# Altium schematic symbol library Maxim Communication Transceiver.SchLib: 302 symbols (part 7 of 7)
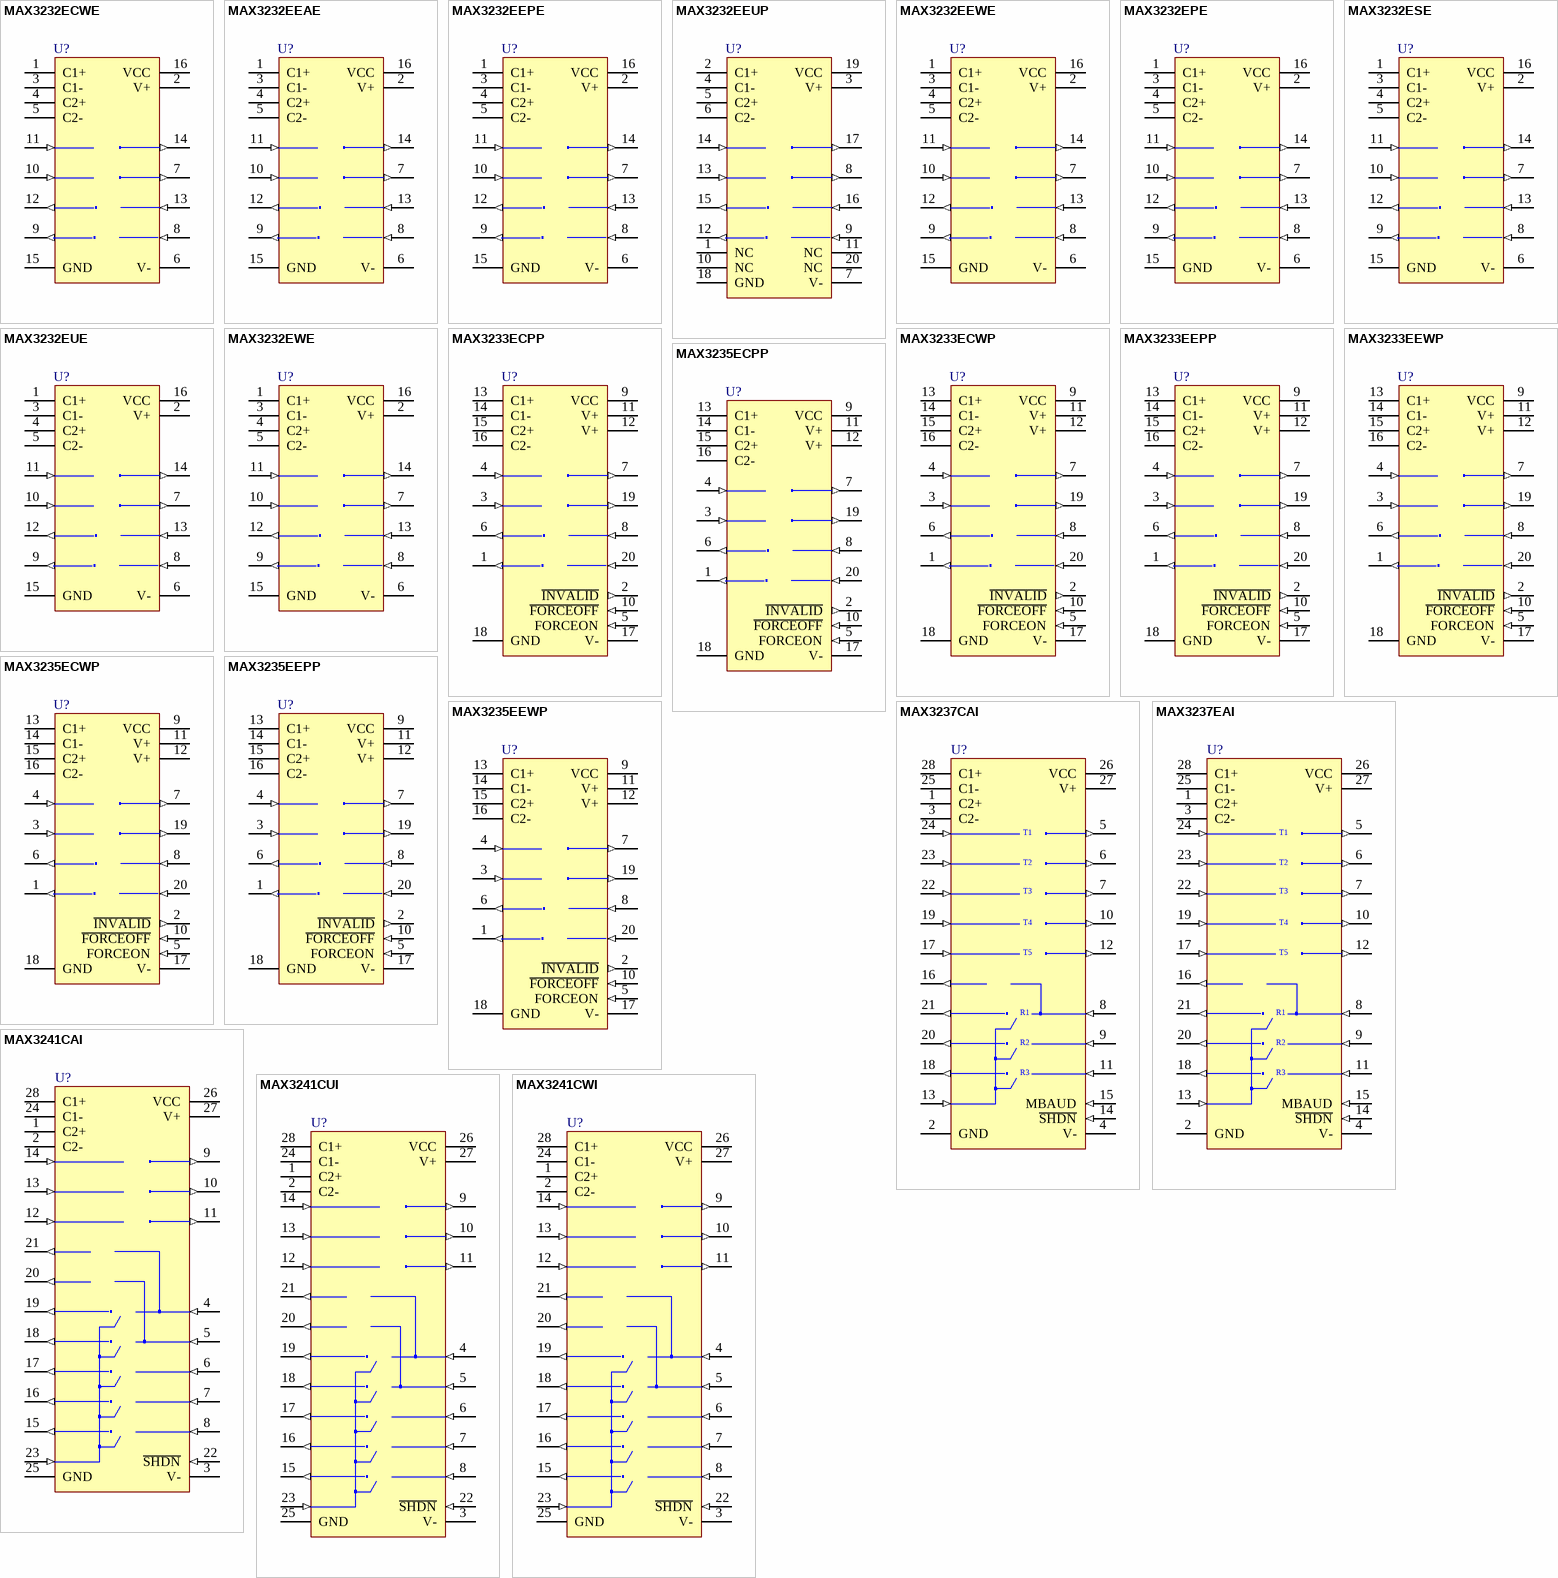
[diagram p18: symbols MAX3232ECWE to MAX3241CWI]

## MAX3235ECWP
designator U?
±15kV ESD-Protected, 1µA, 250kbps, 5V, Dual RS-232 Transceiver with Internal Capacitor; Published: 16-Jan-2001; LatestRevisionDate: 13-Apr-2006; LatestRevisionNote: IPC-7351 Footprint Added.; DatasheetVersion: Apr-1999; PackageReference: WSO20; Publisher: Altium Limited; PackageDescription: 20-Pin Small Outline Integrated Circuit 1.27 mm Pitch; Code_JEDEC: MS-013-AC; Code_IPC: SOIC127P1030-20; ComponentLink1Description: Manufacturer Link; ComponentLink1URL: http://www.maxim-ic.com/; ComponentLink2Description: Datasheet; ComponentLink2URL: http://pdfserv.maxim-ic.com/en/ds/MAX3233E-MAX3235E.pdf
footprint WSO20_N (SOIC, 20-Leads, Body 12.8x7.5mm, Pitch 1.27mm, IPC Medium Density)
footprint WSO20_L (SOIC, 20-Leads, Body 12.8x7.5mm, Pitch 1.27mm, IPC High Density)
footprint WSO20_M (SOIC, 20-Leads, Body 12.8x7.5mm, Pitch 1.27mm, IPC Low Density)
3D model WSO20 (20-Pin Small Outline Integrated Circuit 1.27 mm Pitch)
pins: 1 R2OUT (out), 2 ~{INVALID} (out), 3 T2IN (in), 4 T1IN (in), 5 FORCEON (in), 6 R1OUT (out), 7 T1OUT (out), 8 R1IN (in), 9 VCC (power), 10 ~{FORCEOFF} (in), 11 V+ (power), 12 V+ (power), 13 C1+, 14 C1-, 15 C2+, 16 C2-, 17 V- (power), 18 GND (power), 19 T2OUT (out), 20 R2IN (in)

## MAX3235EEPP
designator U?
±15kV ESD-Protected, 1µA, 250kbps, 5V, Dual RS-232 Transceiver with Internal Capacitor; Published: 16-Jan-2001; LatestRevisionDate: 29-May-2009; LatestRevisionNote: Component Body Added.; DatasheetVersion: Apr-1999; PackageVersion: RevB, 21-0043; PackageReference: PP20; Publisher: Altium Limited; PackageDescription: DIP, 20-Pin, Row Spacing 7.62 mm, Pitch 2.54 mm; Code_JEDEC: MS-001-AE; ComponentLink1Description: Manufacturer Link; ComponentLink1URL: http://www.maxim-ic.com/; ComponentLink2Description: Datasheet; ComponentLink2URL: http://pdfserv.maxim-ic.com/en/ds/MAX3233E-MAX3235E.pdf
footprint PP20 (DIP, 20-Leads, Row Spacing 7.62mm, Pitch 2.54mm, Body 26.16x7.24mm)
3D model PP20 (DIP, 20-Pin, Row Spacing 7.62 mm, Pitch 2.54 mm)
pins: 1 R2OUT (out), 2 ~{INVALID} (out), 3 T2IN (in), 4 T1IN (in), 5 FORCEON (in), 6 R1OUT (out), 7 T1OUT (out), 8 R1IN (in), 9 VCC (power), 10 ~{FORCEOFF} (in), 11 V+ (power), 12 V+ (power), 13 C1+, 14 C1-, 15 C2+, 16 C2-, 17 V- (power), 18 GND (power), 19 T2OUT (out), 20 R2IN (in)

## MAX3235EEWP
designator U?
±15kV ESD-Protected, 1µA, 250kbps, 5V, Dual RS-232 Transceiver with Internal Capacitor; Published: 16-Jan-2001; LatestRevisionDate: 13-Apr-2006; LatestRevisionNote: IPC-7351 Footprint Added.; DatasheetVersion: Apr-1999; PackageReference: WSO20; Publisher: Altium Limited; PackageDescription: 20-Pin Small Outline Integrated Circuit 1.27 mm Pitch; Code_JEDEC: MS-013-AC; Code_IPC: SOIC127P1030-20; ComponentLink1Description: Manufacturer Link; ComponentLink1URL: http://www.maxim-ic.com/; ComponentLink2Description: Datasheet; ComponentLink2URL: http://pdfserv.maxim-ic.com/en/ds/MAX3233E-MAX3235E.pdf
footprint WSO20_N (SOIC, 20-Leads, Body 12.8x7.5mm, Pitch 1.27mm, IPC Medium Density)
footprint WSO20_L (SOIC, 20-Leads, Body 12.8x7.5mm, Pitch 1.27mm, IPC High Density)
footprint WSO20_M (SOIC, 20-Leads, Body 12.8x7.5mm, Pitch 1.27mm, IPC Low Density)
3D model WSO20 (20-Pin Small Outline Integrated Circuit 1.27 mm Pitch)
pins: 1 R2OUT (out), 2 ~{INVALID} (out), 3 T2IN (in), 4 T1IN (in), 5 FORCEON (in), 6 R1OUT (out), 7 T1OUT (out), 8 R1IN (in), 9 VCC (power), 10 ~{FORCEOFF} (in), 11 V+ (power), 12 V+ (power), 13 C1+, 14 C1-, 15 C2+, 16 C2-, 17 V- (power), 18 GND (power), 19 T2OUT (out), 20 R2IN (in)

## MAX3237CAI
designator U?
3.0V TO 5.5V, Low-Power, up to 1Mbps, True RS-232 Transceiver Using Four 0.1µF External Capacitor; Published: 16-Jan-2001; LatestRevisionDate: 29-May-2009; LatestRevisionNote: IPC-7351 Footprint Added.; DatasheetVersion: Mar-1999; PackageVersion: Jul-2000; PackageReference: SSOP28; Publisher: Altium Limited; PackageDescription: 28-Pin Small Outline Package 0.65 mm Pitch; Code_JEDEC: MO-150-AH; Code_IPC: SOP65P780-28; ComponentLink1Description: Manufacturer Link; ComponentLink1URL: http://www.maxim-ic.com/; ComponentLink2Description: Datasheet; ComponentLink2URL: http://pdfserv.maxim-ic.com/en/ds/MAX3222-MAX3241.pdf
footprint SSOP28_N (SOP, 28-Leads, Body 10.2x5.3mm, Pitch 0.65mm, IPC Medium Density)
footprint SSOP28_L (SOP, 28-Leads, Body 10.2x5.3mm, Pitch 0.65mm, IPC High Density)
footprint SSOP28_M (SOP, 28-Leads, Body 10.2x5.3mm, Pitch 0.65mm, IPC Low Density)
3D model SSOP28 (28-Pin Small Outline Package 0.65 mm Pitch)
pins: 1 C2+, 2 GND (power), 3 C2-, 4 V- (power), 5 T1OUT (out), 6 T2OUT (out), 7 T3OUT (out), 8 R1IN (in), 9 R2IN (in), 10 T4OUT (out), 11 R3IN (in), 12 T5OUT (out), 13 ~{EN} (in), 14 ~{SHDN} (in), 15 MBAUD (in), 16 R1OUTB (out), 17 T5IN (in), 18 R3OUT (out), 19 T4IN (in), 20 R2OUT (out), 21 R1OUT (out), 22 T3IN (in), 23 T2IN (in), 24 T1IN (in), 25 C1-, 26 VCC (power), 27 V+ (power), 28 C1+
text: T1; T2; T3; T4; T5; R1; R2; R3

## MAX3237EAI
designator U?
3.0V TO 5.5V, Low-Power, up to 1Mbps, True RS-232 Transceiver Using Four 0.1µF External Capacitor; Published: 16-Jan-2001; LatestRevisionDate: 29-May-2009; LatestRevisionNote: IPC-7351 Footprint Added.; DatasheetVersion: Mar-1999; PackageVersion: Jul-2000; PackageReference: SSOP28; Publisher: Altium Limited; PackageDescription: 28-Pin Small Outline Package 0.65 mm Pitch; Code_JEDEC: MO-150-AH; Code_IPC: SOP65P780-28; ComponentLink1Description: Manufacturer Link; ComponentLink1URL: http://www.maxim-ic.com/; ComponentLink2Description: Datasheet; ComponentLink2URL: http://pdfserv.maxim-ic.com/en/ds/MAX3222-MAX3241.pdf
footprint SSOP28_N (SOP, 28-Leads, Body 10.2x5.3mm, Pitch 0.65mm, IPC Medium Density)
footprint SSOP28_L (SOP, 28-Leads, Body 10.2x5.3mm, Pitch 0.65mm, IPC High Density)
footprint SSOP28_M (SOP, 28-Leads, Body 10.2x5.3mm, Pitch 0.65mm, IPC Low Density)
3D model SSOP28 (28-Pin Small Outline Package 0.65 mm Pitch)
pins: 1 C2+, 2 GND (power), 3 C2-, 4 V- (power), 5 T1OUT (out), 6 T2OUT (out), 7 T3OUT (out), 8 R1IN (in), 9 R2IN (in), 10 T4OUT (out), 11 R3IN (in), 12 T5OUT (out), 13 ~{EN} (in), 14 ~{SHDN} (in), 15 MBAUD (in), 16 R1OUTB (out), 17 T5IN (in), 18 R3OUT (out), 19 T4IN (in), 20 R2OUT (out), 21 R1OUT (out), 22 T3IN (in), 23 T2IN (in), 24 T1IN (in), 25 C1-, 26 VCC (power), 27 V+ (power), 28 C1+
text: T1; T2; T3; T4; T5; R1; R2; R3

## MAX3241CAI
designator U?
3.0V TO 5.5V, Low-Power, up to 1Mbps, True RS-232 Transceiver Using Four 0.1µF External Capacitor; Published: 16-Jan-2001; LatestRevisionDate: 29-May-2009; LatestRevisionNote: IPC-7351 Footprint Added.; DatasheetVersion: Mar-1999; PackageVersion: Jul-2000; PackageReference: SSOP28; Publisher: Altium Limited; PackageDescription: 28-Pin Small Outline Package 0.65 mm Pitch; Code_JEDEC: MO-150-AH; Code_IPC: SOP65P780-28; ComponentLink1Description: Manufacturer Link; ComponentLink1URL: http://www.maxim-ic.com/; ComponentLink2Description: Datasheet; ComponentLink2URL: http://pdfserv.maxim-ic.com/en/ds/MAX3222-MAX3241.pdf
footprint SSOP28_N (SOP, 28-Leads, Body 10.2x5.3mm, Pitch 0.65mm, IPC Medium Density)
footprint SSOP28_L (SOP, 28-Leads, Body 10.2x5.3mm, Pitch 0.65mm, IPC High Density)
footprint SSOP28_M (SOP, 28-Leads, Body 10.2x5.3mm, Pitch 0.65mm, IPC Low Density)
3D model SSOP28 (28-Pin Small Outline Package 0.65 mm Pitch)
pins: 1 C2+, 2 C2-, 3 V- (power), 4 R1IN (in), 5 R2IN (in), 6 R3IN (in), 7 R4IN (in), 8 R5IN (in), 9 T1OUT (out), 10 T2OUT (out), 11 T3OUT (out), 12 T3IN (in), 13 T2IN (in), 14 T1IN (in), 15 R5OUT (out), 16 R4OUT (out), 17 R3OUT (out), 18 R2OUT (out), 19 R1OUT (out), 20 R2OUTB (out), 21 R1OUTB (out), 22 ~{SHDN} (in), 23 ~{EN} (in), 24 C1-, 25 GND (power), 26 VCC (power), 27 V+ (power), 28 C1+

## MAX3241CUI
designator U?
3.0V TO 5.5V, Low-Power, up to 1Mbps, True RS-232 Transceiver Using Four 0.1µF External Capacitor; Published: 16-Jan-2001; LatestRevisionDate: 29-May-2009; LatestRevisionNote: IPC-7351 Footprint Added.; DatasheetVersion: Mar-1999; PackageVersion: 21-0066 C; PackageReference: TSSOP28; Publisher: Altium Limited; PackageDescription: 28-Pin Thin Small Outline Package 0.65 mm Pitch; ComponentLink1Description: Manufacturer Link; ComponentLink1URL: http://www.maxim-ic.com/; ComponentLink2Description: Datasheet; ComponentLink2URL: http://pdfserv.maxim-ic.com/en/ds/MAX3222-MAX3241.pdf
footprint TSSOP28_N (TSOP, 28-Leads, Body 9.7x4.4mm, Pitch 0.65mm, IPC Medium Density)
footprint TSSOP28_L (TSOP, 28-Leads, Body 9.7x4.4mm, Pitch 0.65mm, IPC High Density)
footprint TSSOP28_M (TSOP, 28-Leads, Body 9.7x4.4mm, Pitch 0.65mm, IPC Low Density)
3D model TSSOP28 (28-Pin Thin Small Outline Package 0.65 mm Pitch)
pins: 1 C2+, 2 C2-, 3 V- (power), 4 R1IN (in), 5 R2IN (in), 6 R3IN (in), 7 R4IN (in), 8 R5IN (in), 9 T1OUT (out), 10 T2OUT (out), 11 T3OUT (out), 12 T3IN (in), 13 T2IN (in), 14 T1IN (in), 15 R5OUT (out), 16 R4OUT (out), 17 R3OUT (out), 18 R2OUT (out), 19 R1OUT (out), 20 R2OUTB (out), 21 R1OUTB (out), 22 ~{SHDN} (in), 23 ~{EN} (in), 24 C1-, 25 GND (power), 26 VCC (power), 27 V+ (power), 28 C1+

## MAX3241CWI
designator U?
3.0V TO 5.5V, Low-Power, up to 1Mbps, True RS-232 Transceiver Using Four 0.1µF External Capacitor; Published: 16-Jan-2001; LatestRevisionDate: 13-Apr-2006; LatestRevisionNote: IPC-7351 Footprint Added.; DatasheetVersion: Mar-1999; PackageReference: WSO28; Publisher: Altium Limited; PackageDescription: 28-Pin Small Outline Integrated Circuit 1.27 mm Pitch; ComponentLink1Description: Manufacturer Link; ComponentLink1URL: http://www.maxim-ic.com/; ComponentLink2Description: Datasheet; ComponentLink2URL: http://pdfserv.maxim-ic.com/en/ds/MAX3222-MAX3241.pdf
footprint WSO28_N (SOIC, 28-Leads, Body 17.9x7.5mm, Pitch 1.27mm, IPC Medium Density)
footprint WSO28_L (SOIC, 28-Leads, Body 17.9x7.5mm, Pitch 1.27mm, IPC High Density)
footprint WSO28_M (SOIC, 28-Leads, Body 17.9x7.5mm, Pitch 1.27mm, IPC Low Density)
3D model WSO28 (28-Pin Small Outline Integrated Circuit 1.27 mm Pitch)
pins: 1 C2+, 2 C2-, 3 V- (power), 4 R1IN (in), 5 R2IN (in), 6 R3IN (in), 7 R4IN (in), 8 R5IN (in), 9 T1OUT (out), 10 T2OUT (out), 11 T3OUT (out), 12 T3IN (in), 13 T2IN (in), 14 T1IN (in), 15 R5OUT (out), 16 R4OUT (out), 17 R3OUT (out), 18 R2OUT (out), 19 R1OUT (out), 20 R2OUTB (out), 21 R1OUTB (out), 22 ~{SHDN} (in), 23 ~{EN} (in), 24 C1-, 25 GND (power), 26 VCC (power), 27 V+ (power), 28 C1+

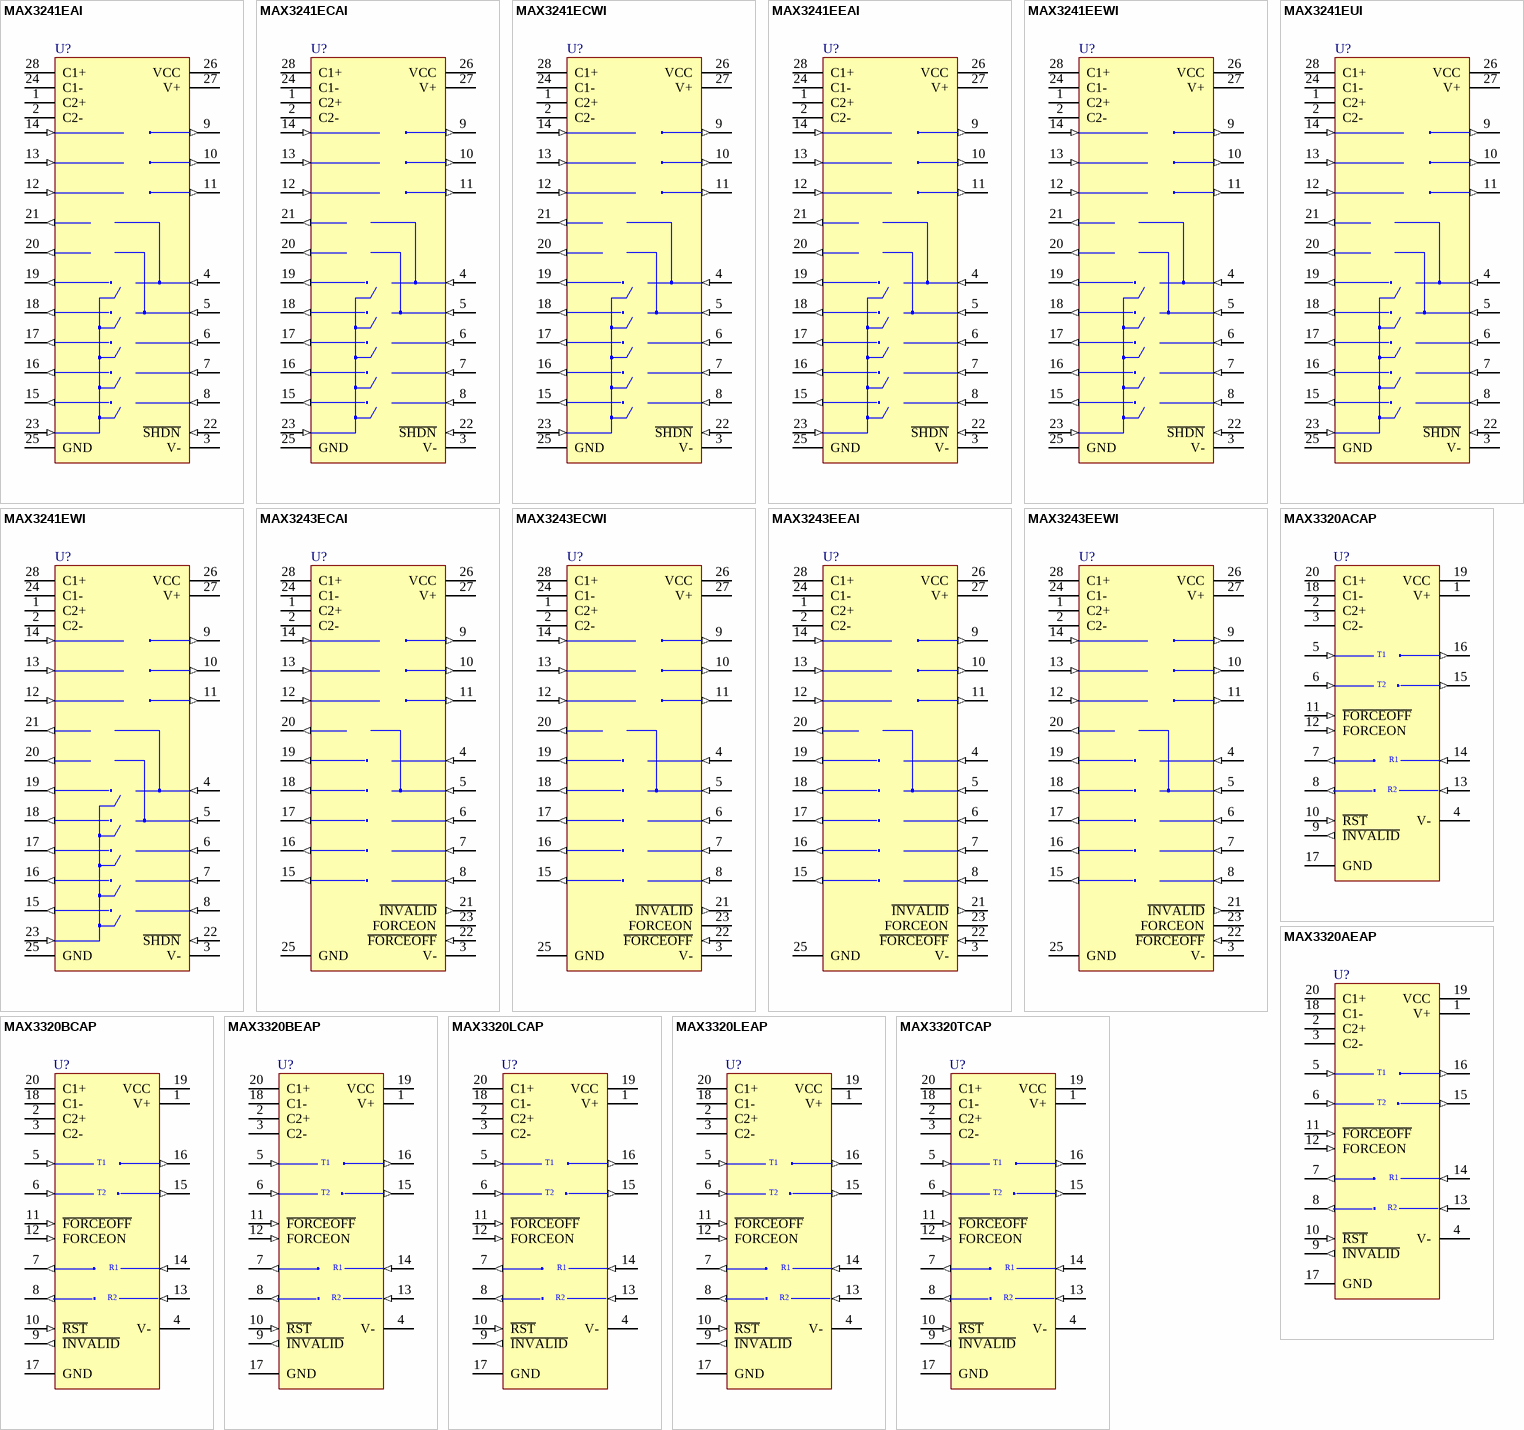
[diagram p11: symbols MAX3241EAI to MAX3320TCAP]

## MAX3241EAI
designator U?
3.0V TO 5.5V, Low-Power, up to 1Mbps, True RS-232 Transceiver Using Four 0.1µF External Capacitor; Published: 16-Jan-2001; LatestRevisionDate: 29-May-2009; LatestRevisionNote: IPC-7351 Footprint Added.; DatasheetVersion: Mar-1999; PackageVersion: Jul-2000; PackageReference: SSOP28; Publisher: Altium Limited; PackageDescription: 28-Pin Small Outline Package 0.65 mm Pitch; Code_JEDEC: MO-150-AH; Code_IPC: SOP65P780-28; ComponentLink1Description: Manufacturer Link; ComponentLink1URL: http://www.maxim-ic.com/; ComponentLink2Description: Datasheet; ComponentLink2URL: http://pdfserv.maxim-ic.com/en/ds/MAX3222-MAX3241.pdf
footprint SSOP28_N (SOP, 28-Leads, Body 10.2x5.3mm, Pitch 0.65mm, IPC Medium Density)
footprint SSOP28_L (SOP, 28-Leads, Body 10.2x5.3mm, Pitch 0.65mm, IPC High Density)
footprint SSOP28_M (SOP, 28-Leads, Body 10.2x5.3mm, Pitch 0.65mm, IPC Low Density)
3D model SSOP28 (28-Pin Small Outline Package 0.65 mm Pitch)
pins: 1 C2+, 2 C2-, 3 V- (power), 4 R1IN (in), 5 R2IN (in), 6 R3IN (in), 7 R4IN (in), 8 R5IN (in), 9 T1OUT (out), 10 T2OUT (out), 11 T3OUT (out), 12 T3IN (in), 13 T2IN (in), 14 T1IN (in), 15 R5OUT (out), 16 R4OUT (out), 17 R3OUT (out), 18 R2OUT (out), 19 R1OUT (out), 20 R2OUTB (out), 21 R1OUTB (out), 22 ~{SHDN} (in), 23 ~{EN} (in), 24 C1-, 25 GND (power), 26 VCC (power), 27 V+ (power), 28 C1+

## MAX3241ECAI
designator U?
±15kV ESD-Protected, 3.0V to 5.5V, Low-Power, up to 250kbps, True RS-232 Transceiver; Published: 16-Jan-2001; LatestRevisionDate: 29-May-2009; LatestRevisionNote: IPC-7351 Footprint Added.; DatasheetVersion: Mar-1999; PackageVersion: Jul-2000; PackageReference: SSOP28; Publisher: Altium Limited; PackageDescription: 28-Pin Small Outline Package 0.65 mm Pitch; Code_JEDEC: MO-150-AH; Code_IPC: SOP65P780-28; ComponentLink1Description: Manufacturer Link; ComponentLink1URL: http://www.maxim-ic.com/; ComponentLink2Description: Datasheet; ComponentLink2URL: http://pdfserv.maxim-ic.com/en/ds/MAX3222E-MAX3246E.pdf
footprint SSOP28_N (SOP, 28-Leads, Body 10.2x5.3mm, Pitch 0.65mm, IPC Medium Density)
footprint SSOP28_L (SOP, 28-Leads, Body 10.2x5.3mm, Pitch 0.65mm, IPC High Density)
footprint SSOP28_M (SOP, 28-Leads, Body 10.2x5.3mm, Pitch 0.65mm, IPC Low Density)
3D model SSOP28 (28-Pin Small Outline Package 0.65 mm Pitch)
pins: 1 C2+, 2 C2-, 3 V- (power), 4 R1IN (in), 5 R2IN (in), 6 R3IN (in), 7 R4IN (in), 8 R5IN (in), 9 T1OUT (out), 10 T2OUT (out), 11 T3OUT (out), 12 T3IN (in), 13 T2IN (in), 14 T1IN (in), 15 R5OUT (out), 16 R4OUT (out), 17 R3OUT (out), 18 R2OUT (out), 19 R1OUT (out), 20 R2OUTB (out), 21 R1OUTB (out), 22 ~{SHDN} (in), 23 ~{EN} (in), 24 C1-, 25 GND (power), 26 VCC (power), 27 V+ (power), 28 C1+

## MAX3241ECWI
designator U?
±15kV ESD-Protected, 3.0V to 5.5V, Low-Power, up to 250kbps, True RS-232 Transceiver; Published: 16-Jan-2001; LatestRevisionDate: 13-Apr-2006; LatestRevisionNote: IPC-7351 Footprint Added.; DatasheetVersion: Mar-1999; PackageReference: WSO28; Publisher: Altium Limited; PackageDescription: 28-Pin Small Outline Integrated Circuit 1.27 mm Pitch; ComponentLink1Description: Manufacturer Link; ComponentLink1URL: http://www.maxim-ic.com/; ComponentLink2Description: Datasheet; ComponentLink2URL: http://pdfserv.maxim-ic.com/en/ds/MAX3222E-MAX3246E.pdf
footprint WSO28_N (SOIC, 28-Leads, Body 17.9x7.5mm, Pitch 1.27mm, IPC Medium Density)
footprint WSO28_L (SOIC, 28-Leads, Body 17.9x7.5mm, Pitch 1.27mm, IPC High Density)
footprint WSO28_M (SOIC, 28-Leads, Body 17.9x7.5mm, Pitch 1.27mm, IPC Low Density)
3D model WSO28 (28-Pin Small Outline Integrated Circuit 1.27 mm Pitch)
pins: 1 C2+, 2 C2-, 3 V- (power), 4 R1IN (in), 5 R2IN (in), 6 R3IN (in), 7 R4IN (in), 8 R5IN (in), 9 T1OUT (out), 10 T2OUT (out), 11 T3OUT (out), 12 T3IN (in), 13 T2IN (in), 14 T1IN (in), 15 R5OUT (out), 16 R4OUT (out), 17 R3OUT (out), 18 R2OUT (out), 19 R1OUT (out), 20 R2OUTB (out), 21 R1OUTB (out), 22 ~{SHDN} (in), 23 ~{EN} (in), 24 C1-, 25 GND (power), 26 VCC (power), 27 V+ (power), 28 C1+

## MAX3241EEAI
designator U?
±15kV ESD-Protected, 3.0V to 5.5V, Low-Power, up to 250kbps, True RS-232 Transceiver; Published: 16-Jan-2001; LatestRevisionDate: 29-May-2009; LatestRevisionNote: IPC-7351 Footprint Added.; DatasheetVersion: Mar-1999; PackageVersion: Jul-2000; PackageReference: SSOP28; Publisher: Altium Limited; PackageDescription: 28-Pin Small Outline Package 0.65 mm Pitch; Code_JEDEC: MO-150-AH; Code_IPC: SOP65P780-28; ComponentLink1Description: Manufacturer Link; ComponentLink1URL: http://www.maxim-ic.com/; ComponentLink2Description: Datasheet; ComponentLink2URL: http://pdfserv.maxim-ic.com/en/ds/MAX3222E-MAX3246E.pdf
footprint SSOP28_N (SOP, 28-Leads, Body 10.2x5.3mm, Pitch 0.65mm, IPC Medium Density)
footprint SSOP28_L (SOP, 28-Leads, Body 10.2x5.3mm, Pitch 0.65mm, IPC High Density)
footprint SSOP28_M (SOP, 28-Leads, Body 10.2x5.3mm, Pitch 0.65mm, IPC Low Density)
3D model SSOP28 (28-Pin Small Outline Package 0.65 mm Pitch)
pins: 1 C2+, 2 C2-, 3 V- (power), 4 R1IN (in), 5 R2IN (in), 6 R3IN (in), 7 R4IN (in), 8 R5IN (in), 9 T1OUT (out), 10 T2OUT (out), 11 T3OUT (out), 12 T3IN (in), 13 T2IN (in), 14 T1IN (in), 15 R5OUT (out), 16 R4OUT (out), 17 R3OUT (out), 18 R2OUT (out), 19 R1OUT (out), 20 R2OUTB (out), 21 R1OUTB (out), 22 ~{SHDN} (in), 23 ~{EN} (in), 24 C1-, 25 GND (power), 26 VCC (power), 27 V+ (power), 28 C1+

## MAX3241EEWI
designator U?
±15kV ESD-Protected, 3.0V to 5.5V, Low-Power, up to 250kbps, True RS-232 Transceiver; Published: 16-Jan-2001; LatestRevisionDate: 13-Apr-2006; LatestRevisionNote: IPC-7351 Footprint Added.; DatasheetVersion: Mar-1999; PackageReference: WSO28; Publisher: Altium Limited; PackageDescription: 28-Pin Small Outline Integrated Circuit 1.27 mm Pitch; ComponentLink1Description: Manufacturer Link; ComponentLink1URL: http://www.maxim-ic.com/; ComponentLink2Description: Datasheet; ComponentLink2URL: http://pdfserv.maxim-ic.com/en/ds/MAX3222E-MAX3246E.pdf
footprint WSO28_N (SOIC, 28-Leads, Body 17.9x7.5mm, Pitch 1.27mm, IPC Medium Density)
footprint WSO28_L (SOIC, 28-Leads, Body 17.9x7.5mm, Pitch 1.27mm, IPC High Density)
footprint WSO28_M (SOIC, 28-Leads, Body 17.9x7.5mm, Pitch 1.27mm, IPC Low Density)
3D model WSO28 (28-Pin Small Outline Integrated Circuit 1.27 mm Pitch)
pins: 1 C2+, 2 C2-, 3 V- (power), 4 R1IN (in), 5 R2IN (in), 6 R3IN (in), 7 R4IN (in), 8 R5IN (in), 9 T1OUT (out), 10 T2OUT (out), 11 T3OUT (out), 12 T3IN (in), 13 T2IN (in), 14 T1IN (in), 15 R5OUT (out), 16 R4OUT (out), 17 R3OUT (out), 18 R2OUT (out), 19 R1OUT (out), 20 R2OUTB (out), 21 R1OUTB (out), 22 ~{SHDN} (in), 23 ~{EN} (in), 24 C1-, 25 GND (power), 26 VCC (power), 27 V+ (power), 28 C1+

## MAX3241EUI
designator U?
3.0V TO 5.5V, Low-Power, up to 1Mbps, True RS-232 Transceiver Using Four 0.1µF External Capacitor; Published: 16-Jan-2001; LatestRevisionDate: 29-May-2009; LatestRevisionNote: IPC-7351 Footprint Added.; DatasheetVersion: Mar-1999; PackageVersion: 21-0066 C; PackageReference: TSSOP28; Publisher: Altium Limited; PackageDescription: 28-Pin Thin Small Outline Package 0.65 mm Pitch; ComponentLink1Description: Manufacturer Link; ComponentLink1URL: http://www.maxim-ic.com/; ComponentLink2Description: Datasheet; ComponentLink2URL: http://pdfserv.maxim-ic.com/en/ds/MAX3222-MAX3241.pdf
footprint TSSOP28_N (TSOP, 28-Leads, Body 9.7x4.4mm, Pitch 0.65mm, IPC Medium Density)
footprint TSSOP28_L (TSOP, 28-Leads, Body 9.7x4.4mm, Pitch 0.65mm, IPC High Density)
footprint TSSOP28_M (TSOP, 28-Leads, Body 9.7x4.4mm, Pitch 0.65mm, IPC Low Density)
3D model TSSOP28 (28-Pin Thin Small Outline Package 0.65 mm Pitch)
pins: 1 C2+, 2 C2-, 3 V- (power), 4 R1IN (in), 5 R2IN (in), 6 R3IN (in), 7 R4IN (in), 8 R5IN (in), 9 T1OUT (out), 10 T2OUT (out), 11 T3OUT (out), 12 T3IN (in), 13 T2IN (in), 14 T1IN (in), 15 R5OUT (out), 16 R4OUT (out), 17 R3OUT (out), 18 R2OUT (out), 19 R1OUT (out), 20 R2OUTB (out), 21 R1OUTB (out), 22 ~{SHDN} (in), 23 ~{EN} (in), 24 C1-, 25 GND (power), 26 VCC (power), 27 V+ (power), 28 C1+

## MAX3241EWI
designator U?
3.0V TO 5.5V, Low-Power, up to 1Mbps, True RS-232 Transceiver Using Four 0.1µF External Capacitor; Published: 16-Jan-2001; LatestRevisionDate: 13-Apr-2006; LatestRevisionNote: IPC-7351 Footprint Added.; DatasheetVersion: Mar-1999; PackageReference: WSO28; Publisher: Altium Limited; PackageDescription: 28-Pin Small Outline Integrated Circuit 1.27 mm Pitch; ComponentLink1Description: Manufacturer Link; ComponentLink1URL: http://www.maxim-ic.com/; ComponentLink2Description: Datasheet; ComponentLink2URL: http://pdfserv.maxim-ic.com/en/ds/MAX3222-MAX3241.pdf
footprint WSO28_N (SOIC, 28-Leads, Body 17.9x7.5mm, Pitch 1.27mm, IPC Medium Density)
footprint WSO28_L (SOIC, 28-Leads, Body 17.9x7.5mm, Pitch 1.27mm, IPC High Density)
footprint WSO28_M (SOIC, 28-Leads, Body 17.9x7.5mm, Pitch 1.27mm, IPC Low Density)
3D model WSO28 (28-Pin Small Outline Integrated Circuit 1.27 mm Pitch)
pins: 1 C2+, 2 C2-, 3 V- (power), 4 R1IN (in), 5 R2IN (in), 6 R3IN (in), 7 R4IN (in), 8 R5IN (in), 9 T1OUT (out), 10 T2OUT (out), 11 T3OUT (out), 12 T3IN (in), 13 T2IN (in), 14 T1IN (in), 15 R5OUT (out), 16 R4OUT (out), 17 R3OUT (out), 18 R2OUT (out), 19 R1OUT (out), 20 R2OUTB (out), 21 R1OUTB (out), 22 ~{SHDN} (in), 23 ~{EN} (in), 24 C1-, 25 GND (power), 26 VCC (power), 27 V+ (power), 28 C1+

## MAX3243ECAI
designator U?
±15kV ESD-Protected, 1µA, 3.0V/5.5V, 250kbps, RS-232 Transceiver with AutoShutdown; Published: 16-Jan-2001; LatestRevisionDate: 29-May-2009; LatestRevisionNote: IPC-7351 Footprint Added.; DatasheetVersion: Jan-1998; PackageVersion: Jul-2000; PackageReference: SSOP28; Publisher: Altium Limited; PackageDescription: 28-Pin Small Outline Package 0.65 mm Pitch; Code_JEDEC: MO-150-AH; Code_IPC: SOP65P780-28; ComponentLink1Description: Manufacturer Link; ComponentLink1URL: http://www.maxim-ic.com/; ComponentLink2Description: Datasheet; ComponentLink2URL: http://pdfserv.maxim-ic.com/en/ds/MAX3221E-MAX3243E.pdf
footprint SSOP28_N (SOP, 28-Leads, Body 10.2x5.3mm, Pitch 0.65mm, IPC Medium Density)
footprint SSOP28_L (SOP, 28-Leads, Body 10.2x5.3mm, Pitch 0.65mm, IPC High Density)
footprint SSOP28_M (SOP, 28-Leads, Body 10.2x5.3mm, Pitch 0.65mm, IPC Low Density)
3D model SSOP28 (28-Pin Small Outline Package 0.65 mm Pitch)
pins: 1 C2+, 2 C2-, 3 V- (power), 4 R1IN (in), 5 R2IN (in), 6 R3IN (in), 7 R4IN (in), 8 R5IN (in), 9 T1OUT (out), 10 T2OUT (out), 11 T3OUT (out), 12 T3IN (in), 13 T2IN (in), 14 T1IN (in), 15 R5OUT (out), 16 R4OUT (out), 17 R3OUT (out), 18 R2OUT (out), 19 R1OUT (out), 20 R2OUTB (out), 21 ~{INVALID} (out), 22 ~{FORCEOFF} (in), 23 FORCEON, 24 C1-, 25 GND (power), 26 VCC (power), 27 V+ (power), 28 C1+

## MAX3243ECWI
designator U?
±15kV ESD-Protected, 1µA, 3.0V/5.5V, 250kbps, RS-232 Transceiver with AutoShutdown; Published: 16-Jan-2001; LatestRevisionDate: 13-Apr-2006; LatestRevisionNote: IPC-7351 Footprint Added.; DatasheetVersion: Jan-1998; PackageReference: WSO28; Publisher: Altium Limited; PackageDescription: 28-Pin Small Outline Integrated Circuit 1.27 mm Pitch; ComponentLink1Description: Manufacturer Link; ComponentLink1URL: http://www.maxim-ic.com/; ComponentLink2Description: Datasheet; ComponentLink2URL: http://pdfserv.maxim-ic.com/en/ds/MAX3221E-MAX3243E.pdf
footprint WSO28_N (SOIC, 28-Leads, Body 17.9x7.5mm, Pitch 1.27mm, IPC Medium Density)
footprint WSO28_L (SOIC, 28-Leads, Body 17.9x7.5mm, Pitch 1.27mm, IPC High Density)
footprint WSO28_M (SOIC, 28-Leads, Body 17.9x7.5mm, Pitch 1.27mm, IPC Low Density)
3D model WSO28 (28-Pin Small Outline Integrated Circuit 1.27 mm Pitch)
pins: 1 C2+, 2 C2-, 3 V- (power), 4 R1IN (in), 5 R2IN (in), 6 R3IN (in), 7 R4IN (in), 8 R5IN (in), 9 T1OUT (out), 10 T2OUT (out), 11 T3OUT (out), 12 T3IN (in), 13 T2IN (in), 14 T1IN (in), 15 R5OUT (out), 16 R4OUT (out), 17 R3OUT (out), 18 R2OUT (out), 19 R1OUT (out), 20 R2OUTB (out), 21 ~{INVALID} (out), 22 ~{FORCEOFF} (in), 23 FORCEON, 24 C1-, 25 GND (power), 26 VCC (power), 27 V+ (power), 28 C1+

## MAX3243EEAI
designator U?
±15kV ESD-Protected, 1µA, 3.0V/5.5V, 250kbps, RS-232 Transceiver with AutoShutdown; Published: 16-Jan-2001; LatestRevisionDate: 29-May-2009; LatestRevisionNote: IPC-7351 Footprint Added.; DatasheetVersion: Jan-1998; PackageVersion: Jul-2000; PackageReference: SSOP28; Publisher: Altium Limited; PackageDescription: 28-Pin Small Outline Package 0.65 mm Pitch; Code_JEDEC: MO-150-AH; Code_IPC: SOP65P780-28; ComponentLink1Description: Manufacturer Link; ComponentLink1URL: http://www.maxim-ic.com/; ComponentLink2Description: Datasheet; ComponentLink2URL: http://pdfserv.maxim-ic.com/en/ds/MAX3221E-MAX3243E.pdf
footprint SSOP28_N (SOP, 28-Leads, Body 10.2x5.3mm, Pitch 0.65mm, IPC Medium Density)
footprint SSOP28_L (SOP, 28-Leads, Body 10.2x5.3mm, Pitch 0.65mm, IPC High Density)
footprint SSOP28_M (SOP, 28-Leads, Body 10.2x5.3mm, Pitch 0.65mm, IPC Low Density)
3D model SSOP28 (28-Pin Small Outline Package 0.65 mm Pitch)
pins: 1 C2+, 2 C2-, 3 V- (power), 4 R1IN (in), 5 R2IN (in), 6 R3IN (in), 7 R4IN (in), 8 R5IN (in), 9 T1OUT (out), 10 T2OUT (out), 11 T3OUT (out), 12 T3IN (in), 13 T2IN (in), 14 T1IN (in), 15 R5OUT (out), 16 R4OUT (out), 17 R3OUT (out), 18 R2OUT (out), 19 R1OUT (out), 20 R2OUTB (out), 21 ~{INVALID} (out), 22 ~{FORCEOFF} (in), 23 FORCEON, 24 C1-, 25 GND (power), 26 VCC (power), 27 V+ (power), 28 C1+

## MAX3243EEWI
designator U?
±15kV ESD-Protected, 1µA, 3.0V/5.5V, 250kbps, RS-232 Transceiver with AutoShutdown; Published: 16-Jan-2001; LatestRevisionDate: 13-Apr-2006; LatestRevisionNote: IPC-7351 Footprint Added.; DatasheetVersion: Jan-1998; PackageReference: WSO28; Publisher: Altium Limited; PackageDescription: 28-Pin Small Outline Integrated Circuit 1.27 mm Pitch; ComponentLink1Description: Manufacturer Link; ComponentLink1URL: http://www.maxim-ic.com/; ComponentLink2Description: Datasheet; ComponentLink2URL: http://pdfserv.maxim-ic.com/en/ds/MAX3221E-MAX3243E.pdf
footprint WSO28_N (SOIC, 28-Leads, Body 17.9x7.5mm, Pitch 1.27mm, IPC Medium Density)
footprint WSO28_L (SOIC, 28-Leads, Body 17.9x7.5mm, Pitch 1.27mm, IPC High Density)
footprint WSO28_M (SOIC, 28-Leads, Body 17.9x7.5mm, Pitch 1.27mm, IPC Low Density)
3D model WSO28 (28-Pin Small Outline Integrated Circuit 1.27 mm Pitch)
pins: 1 C2+, 2 C2-, 3 V- (power), 4 R1IN (in), 5 R2IN (in), 6 R3IN (in), 7 R4IN (in), 8 R5IN (in), 9 T1OUT (out), 10 T2OUT (out), 11 T3OUT (out), 12 T3IN (in), 13 T2IN (in), 14 T1IN (in), 15 R5OUT (out), 16 R4OUT (out), 17 R3OUT (out), 18 R2OUT (out), 19 R1OUT (out), 20 R2OUTB (out), 21 ~{INVALID} (out), 22 ~{FORCEOFF} (in), 23 FORCEON, 24 C1-, 25 GND (power), 26 VCC (power), 27 V+ (power), 28 C1+

## MAX3320ACAP
designator U?
3V to 5.5V, up to 250kbps True RS-232 Transceiver with 4mA Autoshutdown Plus and Power-On Reset; Published: 16-Jan-2001; LatestRevisionDate: 29-May-2009; LatestRevisionNote: IPC-7351 Footprint Added.; DatasheetVersion: Aug-1997; PackageVersion: 1997; PackageReference: SSOP20; Publisher: Altium Limited; PackageDescription: 20-Pin Small Outline Package 0.65 mm Pitch; Code_JEDEC: MO-150-AE; Code_IPC: SOP65P780-20; ComponentLink1Description: Manufacturer Link; ComponentLink1URL: http://www.maxim-ic.com/; ComponentLink2Description: Datasheet; ComponentLink2URL: http://pdfserv.maxim-ic.com/en/ds/MAX3320A-MAX3320T.pdf
footprint SSOP20_N (SOP, 20-Leads, Body 7.2x5.3mm, Pitch 0.65mm, IPC Medium Density)
footprint SSOP20_L (SOP, 20-Leads, Body 7.2x5.3mm, Pitch 0.65mm, IPC High Density)
footprint SSOP20_M (SOP, 20-Leads, Body 7.2x5.3mm, Pitch 0.65mm, IPC Low Density)
3D model SSOP20 (20-Pin Small Outline Package 0.65 mm Pitch)
pins: 1 V+ (power), 2 C2+, 3 C2-, 4 V- (power), 5 T1IN (in), 6 T2IN (in), 7 R1OUT (out), 8 R2OUT (out), 9 ~{INVALID} (out), 10 ~{RST} (in), 11 ~{FORCEOFF} (in), 12 FORCEON (in), 13 R2IN (in), 14 R1IN (in), 15 T2OUT (out), 16 T1OUT (out), 17 GND (power), 18 C1-, 19 VCC (power), 20 C1+
text: T1; T2; R1; R2

## MAX3320AEAP
designator U?
3V to 5.5V, up to 250kbps True RS-232 Transceiver with 4mA Autoshutdown Plus and Power-On Reset; Published: 16-Jan-2001; LatestRevisionDate: 29-May-2009; LatestRevisionNote: IPC-7351 Footprint Added.; DatasheetVersion: Aug-1997; PackageVersion: 1997; PackageReference: SSOP20; Publisher: Altium Limited; PackageDescription: 20-Pin Small Outline Package 0.65 mm Pitch; Code_JEDEC: MO-150-AE; Code_IPC: SOP65P780-20; ComponentLink1Description: Manufacturer Link; ComponentLink1URL: http://www.maxim-ic.com/; ComponentLink2Description: Datasheet; ComponentLink2URL: http://pdfserv.maxim-ic.com/en/ds/MAX3320A-MAX3320T.pdf
footprint SSOP20_N (SOP, 20-Leads, Body 7.2x5.3mm, Pitch 0.65mm, IPC Medium Density)
footprint SSOP20_L (SOP, 20-Leads, Body 7.2x5.3mm, Pitch 0.65mm, IPC High Density)
footprint SSOP20_M (SOP, 20-Leads, Body 7.2x5.3mm, Pitch 0.65mm, IPC Low Density)
3D model SSOP20 (20-Pin Small Outline Package 0.65 mm Pitch)
pins: 1 V+ (power), 2 C2+, 3 C2-, 4 V- (power), 5 T1IN (in), 6 T2IN (in), 7 R1OUT (out), 8 R2OUT (out), 9 ~{INVALID} (out), 10 ~{RST} (in), 11 ~{FORCEOFF} (in), 12 FORCEON (in), 13 R2IN (in), 14 R1IN (in), 15 T2OUT (out), 16 T1OUT (out), 17 GND (power), 18 C1-, 19 VCC (power), 20 C1+
text: T1; T2; R1; R2

## MAX3320BCAP
designator U?
3V to 5.5V, up to 250kbps True RS-232 Transceiver with 4mA Autoshutdown Plus and Power-On Reset; Published: 16-Jan-2001; LatestRevisionDate: 29-May-2009; LatestRevisionNote: IPC-7351 Footprint Added.; DatasheetVersion: Aug-1997; PackageVersion: 1997; PackageReference: SSOP20; Publisher: Altium Limited; PackageDescription: 20-Pin Small Outline Package 0.65 mm Pitch; Code_JEDEC: MO-150-AE; Code_IPC: SOP65P780-20; ComponentLink1Description: Manufacturer Link; ComponentLink1URL: http://www.maxim-ic.com/; ComponentLink2Description: Datasheet; ComponentLink2URL: http://pdfserv.maxim-ic.com/en/ds/MAX3320A-MAX3320T.pdf
footprint SSOP20_N (SOP, 20-Leads, Body 7.2x5.3mm, Pitch 0.65mm, IPC Medium Density)
footprint SSOP20_L (SOP, 20-Leads, Body 7.2x5.3mm, Pitch 0.65mm, IPC High Density)
footprint SSOP20_M (SOP, 20-Leads, Body 7.2x5.3mm, Pitch 0.65mm, IPC Low Density)
3D model SSOP20 (20-Pin Small Outline Package 0.65 mm Pitch)
pins: 1 V+ (power), 2 C2+, 3 C2-, 4 V- (power), 5 T1IN (in), 6 T2IN (in), 7 R1OUT (out), 8 R2OUT (out), 9 ~{INVALID} (out), 10 ~{RST} (in), 11 ~{FORCEOFF} (in), 12 FORCEON (in), 13 R2IN (in), 14 R1IN (in), 15 T2OUT (out), 16 T1OUT (out), 17 GND (power), 18 C1-, 19 VCC (power), 20 C1+
text: T1; T2; R1; R2

## MAX3320BEAP
designator U?
3V to 5.5V, up to 250kbps True RS-232 Transceiver with 4mA Autoshutdown Plus and Power-On Reset; Published: 16-Jan-2001; LatestRevisionDate: 29-May-2009; LatestRevisionNote: IPC-7351 Footprint Added.; DatasheetVersion: Aug-1997; PackageVersion: 1997; PackageReference: SSOP20; Publisher: Altium Limited; PackageDescription: 20-Pin Small Outline Package 0.65 mm Pitch; Code_JEDEC: MO-150-AE; Code_IPC: SOP65P780-20; ComponentLink1Description: Manufacturer Link; ComponentLink1URL: http://www.maxim-ic.com/; ComponentLink2Description: Datasheet; ComponentLink2URL: http://pdfserv.maxim-ic.com/en/ds/MAX3320A-MAX3320T.pdf
footprint SSOP20_N (SOP, 20-Leads, Body 7.2x5.3mm, Pitch 0.65mm, IPC Medium Density)
footprint SSOP20_L (SOP, 20-Leads, Body 7.2x5.3mm, Pitch 0.65mm, IPC High Density)
footprint SSOP20_M (SOP, 20-Leads, Body 7.2x5.3mm, Pitch 0.65mm, IPC Low Density)
3D model SSOP20 (20-Pin Small Outline Package 0.65 mm Pitch)
pins: 1 V+ (power), 2 C2+, 3 C2-, 4 V- (power), 5 T1IN (in), 6 T2IN (in), 7 R1OUT (out), 8 R2OUT (out), 9 ~{INVALID} (out), 10 ~{RST} (in), 11 ~{FORCEOFF} (in), 12 FORCEON (in), 13 R2IN (in), 14 R1IN (in), 15 T2OUT (out), 16 T1OUT (out), 17 GND (power), 18 C1-, 19 VCC (power), 20 C1+
text: T1; T2; R1; R2

## MAX3320LCAP
designator U?
3V to 5.5V, up to 250kbps True RS-232 Transceiver with 4mA Autoshutdown Plus and Power-On Reset; Published: 16-Jan-2001; LatestRevisionDate: 29-May-2009; LatestRevisionNote: IPC-7351 Footprint Added.; DatasheetVersion: Aug-1997; PackageVersion: 1997; PackageReference: SSOP20; Publisher: Altium Limited; PackageDescription: 20-Pin Small Outline Package 0.65 mm Pitch; Code_JEDEC: MO-150-AE; Code_IPC: SOP65P780-20; ComponentLink1Description: Manufacturer Link; ComponentLink1URL: http://www.maxim-ic.com/; ComponentLink2Description: Datasheet; ComponentLink2URL: http://pdfserv.maxim-ic.com/en/ds/MAX3320A-MAX3320T.pdf
footprint SSOP20_N (SOP, 20-Leads, Body 7.2x5.3mm, Pitch 0.65mm, IPC Medium Density)
footprint SSOP20_L (SOP, 20-Leads, Body 7.2x5.3mm, Pitch 0.65mm, IPC High Density)
footprint SSOP20_M (SOP, 20-Leads, Body 7.2x5.3mm, Pitch 0.65mm, IPC Low Density)
3D model SSOP20 (20-Pin Small Outline Package 0.65 mm Pitch)
pins: 1 V+ (power), 2 C2+, 3 C2-, 4 V- (power), 5 T1IN (in), 6 T2IN (in), 7 R1OUT (out), 8 R2OUT (out), 9 ~{INVALID} (out), 10 ~{RST} (in), 11 ~{FORCEOFF} (in), 12 FORCEON (in), 13 R2IN (in), 14 R1IN (in), 15 T2OUT (out), 16 T1OUT (out), 17 GND (power), 18 C1-, 19 VCC (power), 20 C1+
text: T1; T2; R1; R2

## MAX3320LEAP
designator U?
3V to 5.5V, up to 250kbps True RS-232 Transceiver with 4mA Autoshutdown Plus and Power-On Reset; Published: 16-Jan-2001; LatestRevisionDate: 29-May-2009; LatestRevisionNote: IPC-7351 Footprint Added.; DatasheetVersion: Aug-1997; PackageVersion: 1997; PackageReference: SSOP20; Publisher: Altium Limited; PackageDescription: 20-Pin Small Outline Package 0.65 mm Pitch; Code_JEDEC: MO-150-AE; Code_IPC: SOP65P780-20; ComponentLink1Description: Manufacturer Link; ComponentLink1URL: http://www.maxim-ic.com/; ComponentLink2Description: Datasheet; ComponentLink2URL: http://pdfserv.maxim-ic.com/en/ds/MAX3320A-MAX3320T.pdf
footprint SSOP20_N (SOP, 20-Leads, Body 7.2x5.3mm, Pitch 0.65mm, IPC Medium Density)
footprint SSOP20_L (SOP, 20-Leads, Body 7.2x5.3mm, Pitch 0.65mm, IPC High Density)
footprint SSOP20_M (SOP, 20-Leads, Body 7.2x5.3mm, Pitch 0.65mm, IPC Low Density)
3D model SSOP20 (20-Pin Small Outline Package 0.65 mm Pitch)
pins: 1 V+ (power), 2 C2+, 3 C2-, 4 V- (power), 5 T1IN (in), 6 T2IN (in), 7 R1OUT (out), 8 R2OUT (out), 9 ~{INVALID} (out), 10 ~{RST} (in), 11 ~{FORCEOFF} (in), 12 FORCEON (in), 13 R2IN (in), 14 R1IN (in), 15 T2OUT (out), 16 T1OUT (out), 17 GND (power), 18 C1-, 19 VCC (power), 20 C1+
text: T1; T2; R1; R2

## MAX3320TCAP
designator U?
3V to 5.5V, up to 250kbps True RS-232 Transceiver with 4mA Autoshutdown Plus and Power-On Reset; Published: 16-Jan-2001; LatestRevisionDate: 29-May-2009; LatestRevisionNote: IPC-7351 Footprint Added.; DatasheetVersion: Aug-1997; PackageVersion: 1997; PackageReference: SSOP20; Publisher: Altium Limited; PackageDescription: 20-Pin Small Outline Package 0.65 mm Pitch; Code_JEDEC: MO-150-AE; Code_IPC: SOP65P780-20; ComponentLink1Description: Manufacturer Link; ComponentLink1URL: http://www.maxim-ic.com/; ComponentLink2Description: Datasheet; ComponentLink2URL: http://pdfserv.maxim-ic.com/en/ds/MAX3320A-MAX3320T.pdf
footprint SSOP20_N (SOP, 20-Leads, Body 7.2x5.3mm, Pitch 0.65mm, IPC Medium Density)
footprint SSOP20_L (SOP, 20-Leads, Body 7.2x5.3mm, Pitch 0.65mm, IPC High Density)
footprint SSOP20_M (SOP, 20-Leads, Body 7.2x5.3mm, Pitch 0.65mm, IPC Low Density)
3D model SSOP20 (20-Pin Small Outline Package 0.65 mm Pitch)
pins: 1 V+ (power), 2 C2+, 3 C2-, 4 V- (power), 5 T1IN (in), 6 T2IN (in), 7 R1OUT (out), 8 R2OUT (out), 9 ~{INVALID} (out), 10 ~{RST} (in), 11 ~{FORCEOFF} (in), 12 FORCEON (in), 13 R2IN (in), 14 R1IN (in), 15 T2OUT (out), 16 T1OUT (out), 17 GND (power), 18 C1-, 19 VCC (power), 20 C1+
text: T1; T2; R1; R2

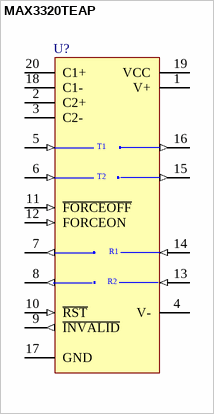
[diagram p12: symbol MAX3320TEAP]

## MAX3320TEAP
designator U?
3V to 5.5V, up to 250kbps True RS-232 Transceiver with 4mA Autoshutdown Plus and Power-On Reset; Published: 16-Jan-2001; LatestRevisionDate: 29-May-2009; LatestRevisionNote: IPC-7351 Footprint Added.; DatasheetVersion: Aug-1997; PackageVersion: 1997; PackageReference: SSOP20; Publisher: Altium Limited; PackageDescription: 20-Pin Small Outline Package 0.65 mm Pitch; Code_JEDEC: MO-150-AE; Code_IPC: SOP65P780-20; ComponentLink1Description: Manufacturer Link; ComponentLink1URL: http://www.maxim-ic.com/; ComponentLink2Description: Datasheet; ComponentLink2URL: http://pdfserv.maxim-ic.com/en/ds/MAX3320A-MAX3320T.pdf
footprint SSOP20_N (SOP, 20-Leads, Body 7.2x5.3mm, Pitch 0.65mm, IPC Medium Density)
footprint SSOP20_L (SOP, 20-Leads, Body 7.2x5.3mm, Pitch 0.65mm, IPC High Density)
footprint SSOP20_M (SOP, 20-Leads, Body 7.2x5.3mm, Pitch 0.65mm, IPC Low Density)
3D model SSOP20 (20-Pin Small Outline Package 0.65 mm Pitch)
pins: 1 V+ (power), 2 C2+, 3 C2-, 4 V- (power), 5 T1IN (in), 6 T2IN (in), 7 R1OUT (out), 8 R2OUT (out), 9 ~{INVALID} (out), 10 ~{RST} (in), 11 ~{FORCEOFF} (in), 12 FORCEON (in), 13 R2IN (in), 14 R1IN (in), 15 T2OUT (out), 16 T1OUT (out), 17 GND (power), 18 C1-, 19 VCC (power), 20 C1+
text: T1; T2; R1; R2